# Altium footprint library M805000000M10433300000.PcbLib: 1 footprints
Each footprint in its own frame and in the unit in brackets; x right, y up, seen from the top. Pads: shape width x height; smd on the part's side, far side on the other; paste and mask are expansions set on the pad; w line width, h text height; cw(c..) or ccw(c..) is an arc to the next point about the centre after c.
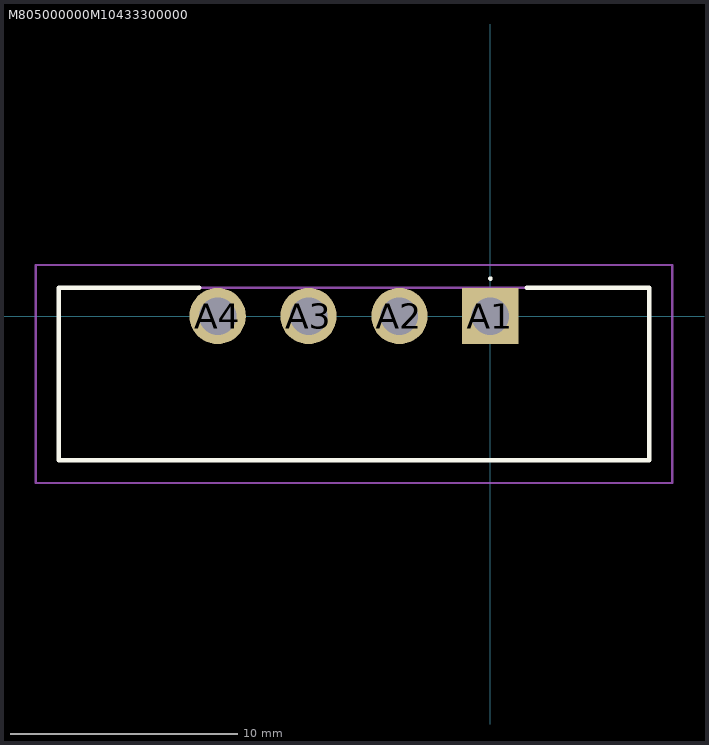
[diagram p0: the footprint, top view; thin cyan lines are the x and y axes]

## M805000000M10433300000 [mm]
pads (4):
  rect 2.475x2.475 hole 1.65: A1(0,0)
  round 2.475 hole 1.65: A2(-4,0) A3(-8,0) A4(-12,0)
Top Overlay:
  lines w0.1: 0,1.6 cw(c0,1.65) 0,1.7 ; 0,1.6 0,1.6 ; 0,1.6 ccw(c0,1.65) 0,1.7 ; 0,1.7 0,1.7
  lines w0.2: -12.8,1.25 -19,1.25 -19,-6.35 7,-6.35 7,1.25 1.6,1.25
Mechanical 15:
  lines w0.1: -19,-6.35 7,-6.35 7,1.25 -19,1.25 -19,-6.35
Mechanical 20:
  lines w0.1: -20,-7.35 8,-7.35 8,2.25 -20,2.25 -20,-7.35